# Altium footprint library AC1005.PcbLib: 1 footprints
Each footprint in its own frame and in the unit in brackets; x right, y up, seen from the top. Pads: shape width x height; smd on the part's side, far side on the other; paste and mask are expansions set on the pad; w line width, h text height; cw(c..) or ccw(c..) is an arc to the next point about the centre after c.
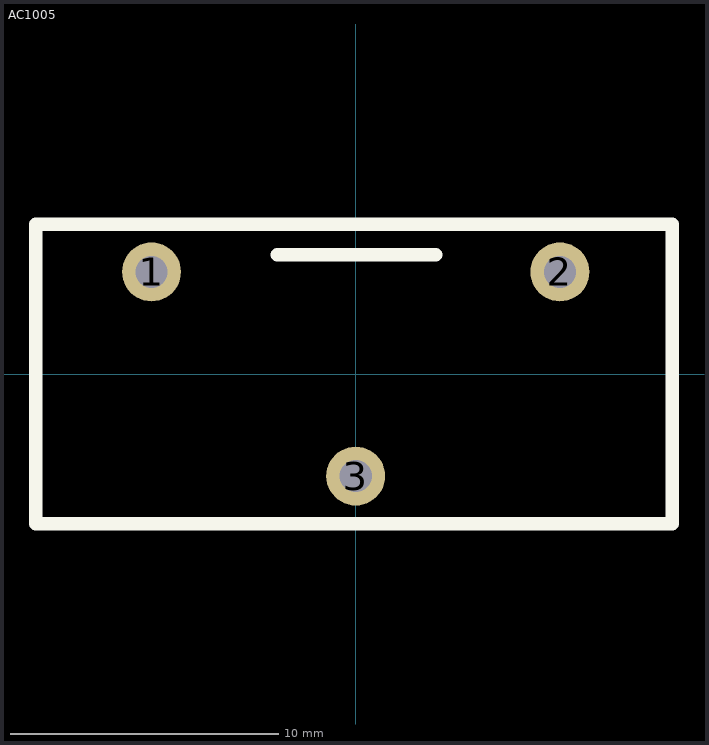
[diagram p0: the footprint, top view; thin cyan lines are the x and y axes]

## AC1005 [mm]
pads (3):
  round 2.2 hole 1.2: 1(-7.62,3.81) 2(7.62,3.81) 3(0,-3.81)
Top Overlay:
  lines w0.5: -2.921,4.445 -0.191,4.445 2.984,4.445 ; -11.938,-5.588 11.811,-5.588 11.811,5.588 -11.938,5.588 -11.938,-5.588
3D body "User Library-AC1005.STEP": height 23.9, standoff -5.9, extent -11.9,-5.6 11.9,5.52